# Altium footprint library WJ500V5082P.PcbLib: 1 footprints
Each footprint in its own frame and in the unit in brackets; x right, y up, seen from the top. Pads: shape width x height; smd on the part's side, far side on the other; paste and mask are expansions set on the pad; w line width, h text height; cw(c..) or ccw(c..) is an arc to the next point about the centre after c.
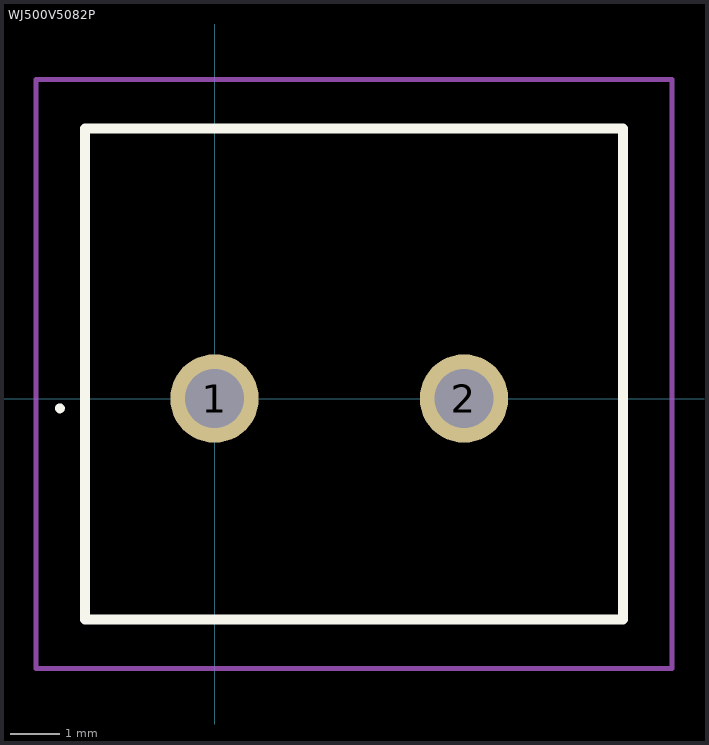
[diagram p0: the footprint, top view; thin cyan lines are the x and y axes]

## WJ500V5082P [mm]
pads (2):
  round 1.8 hole 1.2: 1(0,0) 2(5.08,0)
Top Overlay:
  lines w0.1: -3.2,-0.2 -3.2,-0.2 ; -3.2,-0.2 ccw(c-3.15,-0.2) -3.1,-0.2 ; -3.2,-0.2 cw(c-3.15,-0.2) -3.1,-0.2 ; -3.1,-0.2 -3.1,-0.2
  lines w0.2: -2.64,-4.5 8.32,-4.5 8.32,5.5 -2.64,5.5 -2.64,-4.5
Mechanical 15:
  lines w0.1: -2.64,-4.5 8.32,-4.5 8.32,5.5 -2.64,5.5 -2.64,-4.5
Mechanical 20:
  lines w0.1: -3.64,-5.5 9.32,-5.5 9.32,6.5 -3.64,6.5 -3.64,-5.5